# Altium integrated library TI_Logic_Specialty_Logic.IntLib: 2504 symbols (part 20 of 81)
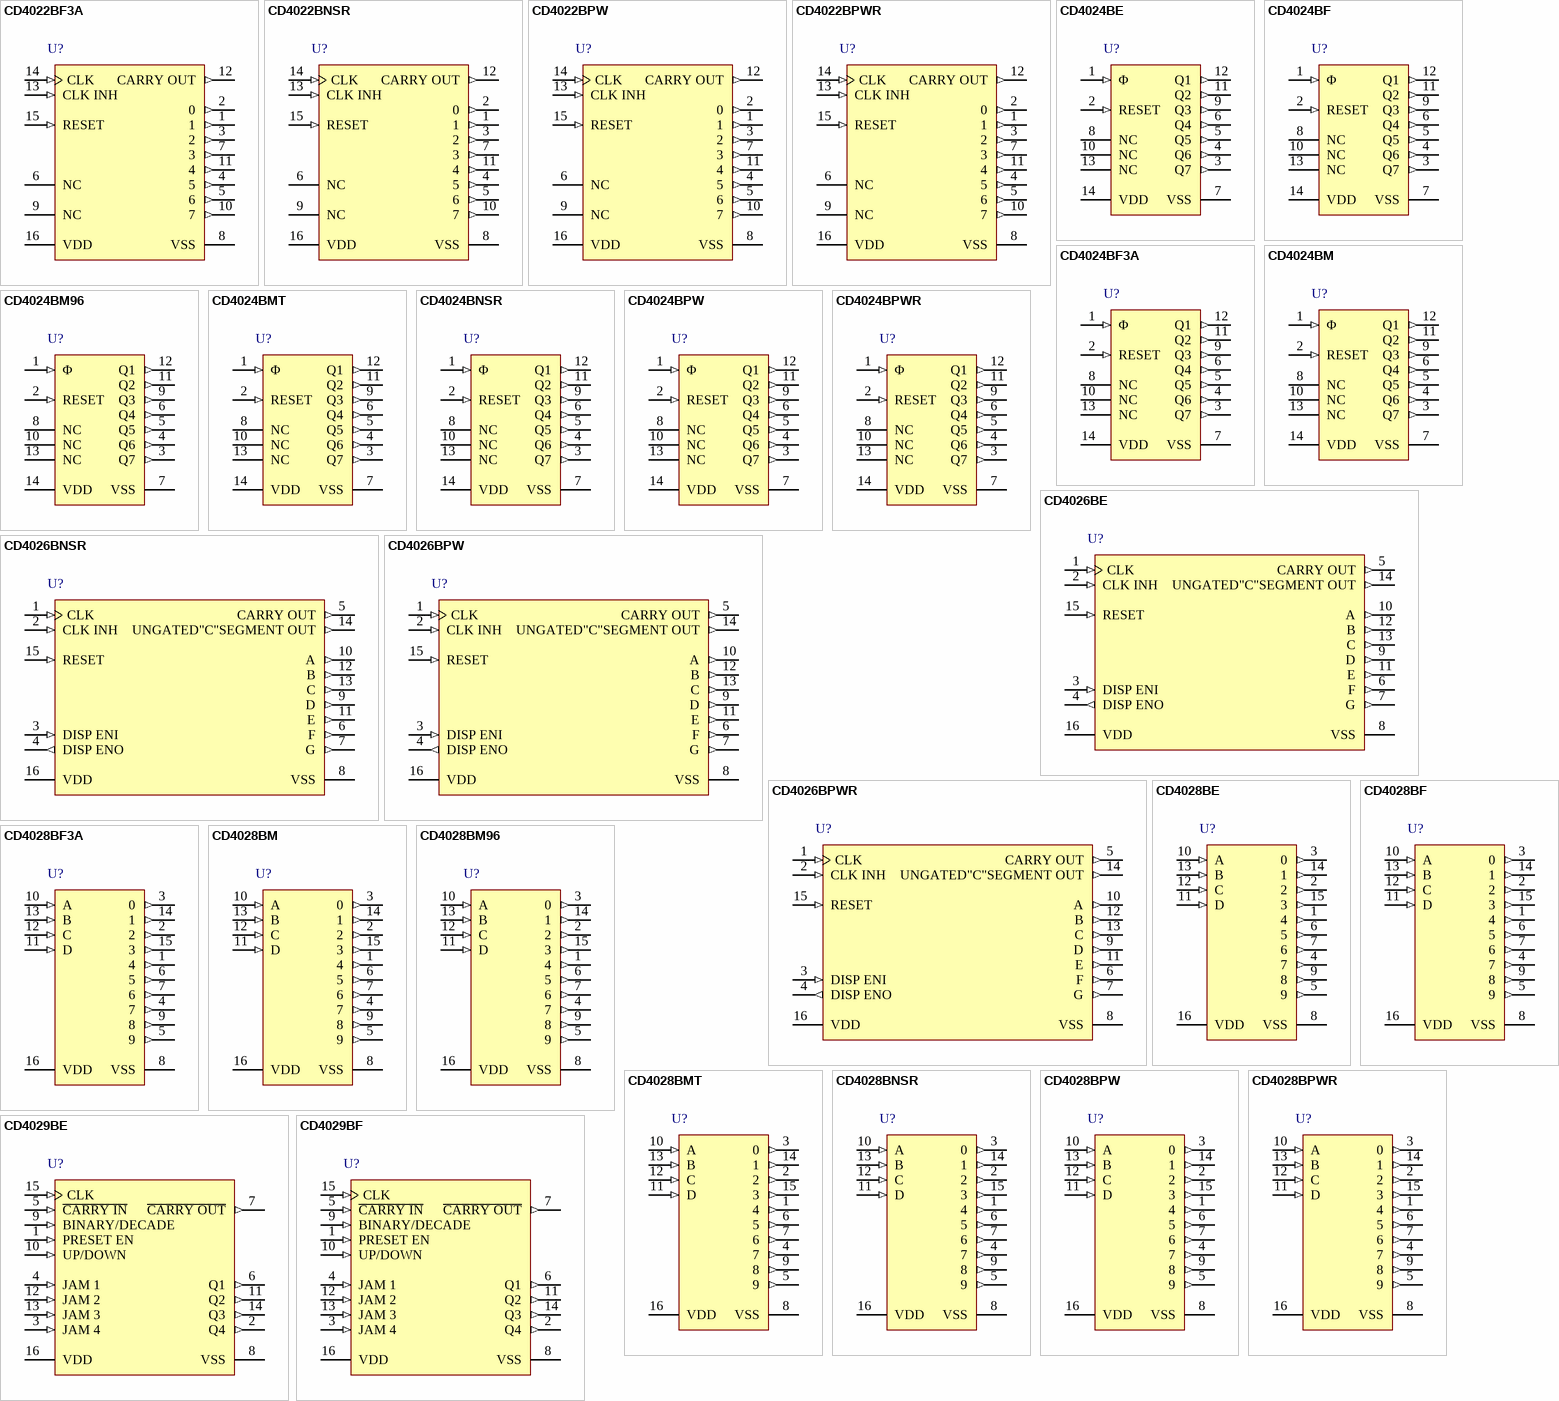
[diagram p123: symbols CD4022BF3A to CD4029BF]

## CD4028BNSR
designator U?
CMOS BCD-to-Decimal or Binary-to-Octal Decoders/Drivers, NS0016A, LARGE T&R; Generic Part Number: CD4028B; Manufacturer: Texas Instruments; PartNumber: CD4028BNSR; VCC(Max)(V): 18; VCC(Min)(V): 3; Function: Decoder/Demultiplexer; ICC @ Nom Voltage(Max)(mA): 0.3; Bits(#): 10; F @ Nom Voltage(Max)(Mhz): 8; Configuration: 4：10; Channels(#): 1; Rating: Catalog; Technology Family: CD4000; Voltage(Nom)(V): 5,10,15; Schmitt Trigger: No; Output Drive (IOL/IOH)(Max)(mA): 1.5/-1.5; tpd @ Nom Voltage(Max)(ns): 160; DatasheetVersion: SCHS033C; PackageReference: NS0016A; Supplier 1: Mouser; Supplier Part Number 1: 595-CD4028BNSR; Supplier 2: Digi-Key; Supplier Part Number 2: 296-12724-2-ND; Supplier 3: Digi-Key; Supplier Part Number 3: 296-12724-1-ND; Supplier 4: Digi-Key; Supplier Part Number 4: 296-12724-6-ND; Output Type: CMOS; Input Type: CMOS; Operating Temperature Range(C): -55 to 125; Type: Standard; ComponentLink1Description: Manufacturer URL; ComponentLink1URL: http://www.ti.com/; ComponentLink2Description: Datasheet; ComponentLink2URL: http://www.ti.com/lit/ds/symlink/cd4028b.pdf; ComponentLink3Description: Package Specification; ComponentLink3URL: http://www.ti.com/lit/ml/msop002a/msop002a.pdf
footprint NS0016A_N (SOIC,16-Leads,Body 10.5x5.6mm,Pitch 1.27mm,IPC Medium Density)
footprint NS0016A_M (SOIC,16-Leads,Body 10.5x5.6mm,Pitch 1.27mm,IPC Low Density)
footprint NS0016A_L (SOIC,16-Leads,Body 10.5x5.6mm,Pitch 1.27mm,IPC High Density)
pins: 1 4 (out), 2 (out), 3 0 (out), 4 7 (out), 5 9 (out), 6 5 (out), 7 6 (out), 8 VSS (power), 9 8 (out), 10 A (in), 11 D (in), 12 C (in), 13 B (in), 14 1 (out), 15 3 (out), 16 VDD (power)

## CD4028BPW
designator U?
CMOS BCD-to-Decimal or Binary-to-Octal Decoders/Drivers, PW0016A, TUBE; Generic Part Number: CD4028B; Manufacturer: Texas Instruments; PartNumber: CD4028BPW; VCC(Max)(V): 18; VCC(Min)(V): 3; Function: Decoder/Demultiplexer; ICC @ Nom Voltage(Max)(mA): 0.3; Bits(#): 10; F @ Nom Voltage(Max)(Mhz): 8; Configuration: 4：10; Channels(#): 1; Rating: Catalog; Technology Family: CD4000; Voltage(Nom)(V): 5,10,15; Schmitt Trigger: No; Output Drive (IOL/IOH)(Max)(mA): 1.5/-1.5; tpd @ Nom Voltage(Max)(ns): 160; DatasheetVersion: SCHS033C; PackageReference: PW0016A; Supplier 1: Mouser; Supplier Part Number 1: 595-CD4028BPW; Supplier 2: Digi-Key; Supplier Part Number 2: 296-32880-5-ND; Output Type: CMOS; Input Type: CMOS; Operating Temperature Range(C): -55 to 125; Type: Standard; Code_JEDEC: MO-153; ComponentLink1Description: Manufacturer URL; ComponentLink1URL: http://www.ti.com/; ComponentLink2Description: Datasheet; ComponentLink2URL: http://www.ti.com/lit/ds/symlink/cd4028b.pdf; ComponentLink3Description: Package Specification; ComponentLink3URL: http://www.ti.com/lit/ml/mpds361/mpds361.pdf
footprint PW0016A_N (SOP, 16-Leads, Body 5.1x4.5mm, Pitch 0.65mm, IPC Medium Density)
footprint PW0016A_M (SOP, 16-Leads, Body 5.1x4.5mm, Pitch 0.65mm, IPC Low Density)
footprint PW0016A_L (SOP, 16-Leads, Body 5.1x4.5mm, Pitch 0.65mm, IPC High Density)
pins: 1 4 (out), 2 (out), 3 0 (out), 4 7 (out), 5 9 (out), 6 5 (out), 7 6 (out), 8 VSS (power), 9 8 (out), 10 A (in), 11 D (in), 12 C (in), 13 B (in), 14 1 (out), 15 3 (out), 16 VDD (power)

## CD4028BPWR
designator U?
CMOS BCD-to-Decimal or Binary-to-Octal Decoders/Drivers, PW0016A, LARGE T&R; Generic Part Number: CD4028B; Manufacturer: Texas Instruments; PartNumber: CD4028BPWR; VCC(Max)(V): 18; VCC(Min)(V): 3; Function: Decoder/Demultiplexer; ICC @ Nom Voltage(Max)(mA): 0.3; Bits(#): 10; F @ Nom Voltage(Max)(Mhz): 8; Configuration: 4：10; Channels(#): 1; Rating: Catalog; Technology Family: CD4000; Voltage(Nom)(V): 5,10,15; Schmitt Trigger: No; Output Drive (IOL/IOH)(Max)(mA): 1.5/-1.5; tpd @ Nom Voltage(Max)(ns): 160; DatasheetVersion: SCHS033C; PackageReference: PW0016A; Supplier 1: Mouser; Supplier Part Number 1: 595-CD4028BPWR; Supplier 2: Digi-Key; Supplier Part Number 2: 296-31494-2-ND; Supplier 3: Digi-Key; Supplier Part Number 3: 296-31494-1-ND; Supplier 4: Digi-Key; Supplier Part Number 4: 296-31494-6-ND; Output Type: CMOS; Input Type: CMOS; Operating Temperature Range(C): -55 to 125; Type: Standard; Code_JEDEC: MO-153; ComponentLink1Description: Manufacturer URL; ComponentLink1URL: http://www.ti.com/; ComponentLink2Description: Datasheet; ComponentLink2URL: http://www.ti.com/lit/ds/symlink/cd4028b.pdf; ComponentLink3Description: Package Specification; ComponentLink3URL: http://www.ti.com/lit/ml/mpds361/mpds361.pdf
footprint PW0016A_N (SOP, 16-Leads, Body 5.1x4.5mm, Pitch 0.65mm, IPC Medium Density)
footprint PW0016A_M (SOP, 16-Leads, Body 5.1x4.5mm, Pitch 0.65mm, IPC Low Density)
footprint PW0016A_L (SOP, 16-Leads, Body 5.1x4.5mm, Pitch 0.65mm, IPC High Density)
pins: 1 4 (out), 2 (out), 3 0 (out), 4 7 (out), 5 9 (out), 6 5 (out), 7 6 (out), 8 VSS (power), 9 8 (out), 10 A (in), 11 D (in), 12 C (in), 13 B (in), 14 1 (out), 15 3 (out), 16 VDD (power)

## CD4029BE
designator U?
CMOS Presettable Up/Down Counter, N0016A, TUBE; Generic Part Number: CD4029B; Manufacturer: Texas Instruments; PartNumber: CD4029BE; VCC(Max)(V): 18; VCC(Min)(V): 3; Inputs: 1; ICC @ Nom Voltage(Max)(mA): 0.03; Bits(#): 4; F @ Nom Voltage(Max)(Mhz): 8; Rating: Catalog; Technology Family: CD4000; Voltage(Nom)(V): 5,10,15; Schmitt Trigger: No; Output Drive (IOL/IOH)(Max)(mA): 1.5/-1.5; tpd @ Nom Voltage(Max)(ns): 260; DatasheetVersion: SCHS034C; PackageReference: N0016A; Supplier 1: Mouser; Supplier Part Number 1: 595-CD4029BE; Supplier 2: Digi-Key; Supplier Part Number 2: 296-2046-5-ND; Output Type: CMOS; Function: Counter; Input Type: CMOS; Operating Temperature Range(C): -55 to 125; Type: Binary,Decade; Code_JEDEC: MS-001; ComponentLink1Description: Manufacturer URL; ComponentLink1URL: http://www.ti.com/; ComponentLink2Description: Datasheet; ComponentLink2URL: http://www.ti.com/lit/ds/symlink/cd4029b.pdf; ComponentLink3Description: Package Specification; ComponentLink3URL: http://www.ti.com/lit/ml/mpdi002c/mpdi002c.pdf
footprint N0016A (DIP, 16-Leads, Body 19.7x6.6mm, Pitch 2.54mm)
pins: 1 PRESET EN (in), 2 Q4 (out), 3 JAM 4 (in), 4 JAM 1 (in), 5 ~{CARRY IN} (in), 6 Q1 (out), 7 ~{CARRY OUT} (out), 8 VSS (power), 9 BINARY/DECADE (in), 10 UP/DOWN (in), 11 Q2 (out), 12 JAM 2 (in), 13 JAM 3 (in), 14 Q3 (out), 15 CLK (in), 16 VDD (power)

## CD4029BF
designator U?
CMOS Presettable Up/Down Counter, J0016A, TUBE; Generic Part Number: CD4029B-MIL; Manufacturer: Texas Instruments; PartNumber: CD4029BF; VCC(Max)(V): 18; VCC(Min)(V): 3; Inputs: 1; ICC @ Nom Voltage(Max)(mA): 0.03; Bits(#): 4; F @ Nom Voltage(Max)(Mhz): 8; Rating: Military; Technology Family: CD4000; Voltage(Nom)(V): 10; Schmitt Trigger: No; Output Drive (IOL/IOH)(Max)(mA): 1.5/-1.5; tpd @ Nom Voltage(Max)(ns): 260; DatasheetVersion: SCHS034C; PackageReference: J0016A; Output Type: CMOS; Function: Counter; Input Type: CMOS; Operating Temperature Range(C): -55 to 125; Type: Binary,Decade; ComponentLink1Description: Manufacturer URL; ComponentLink1URL: http://www.ti.com/; ComponentLink2Description: Datasheet; ComponentLink2URL: http://www.ti.com/lit/ds/symlink/cd4029b-mil.pdf; ComponentLink3Description: Package Specification; ComponentLink3URL: http://www.ti.com/lit/ml/mcer002d/mcer002d.pdf
footprint J0016A (DIP, 16-Leads, Body 21.35x7.2mm, Pitch 2.54mm)
pins: 1 PRESET EN (in), 2 Q4 (out), 3 JAM 4 (in), 4 JAM 1 (in), 5 ~{CARRY IN} (in), 6 Q1 (out), 7 ~{CARRY OUT} (out), 8 VSS (power), 9 BINARY/DECADE (in), 10 UP/DOWN (in), 11 Q2 (out), 12 JAM 2 (in), 13 JAM 3 (in), 14 Q3 (out), 15 CLK (in), 16 VDD (power)

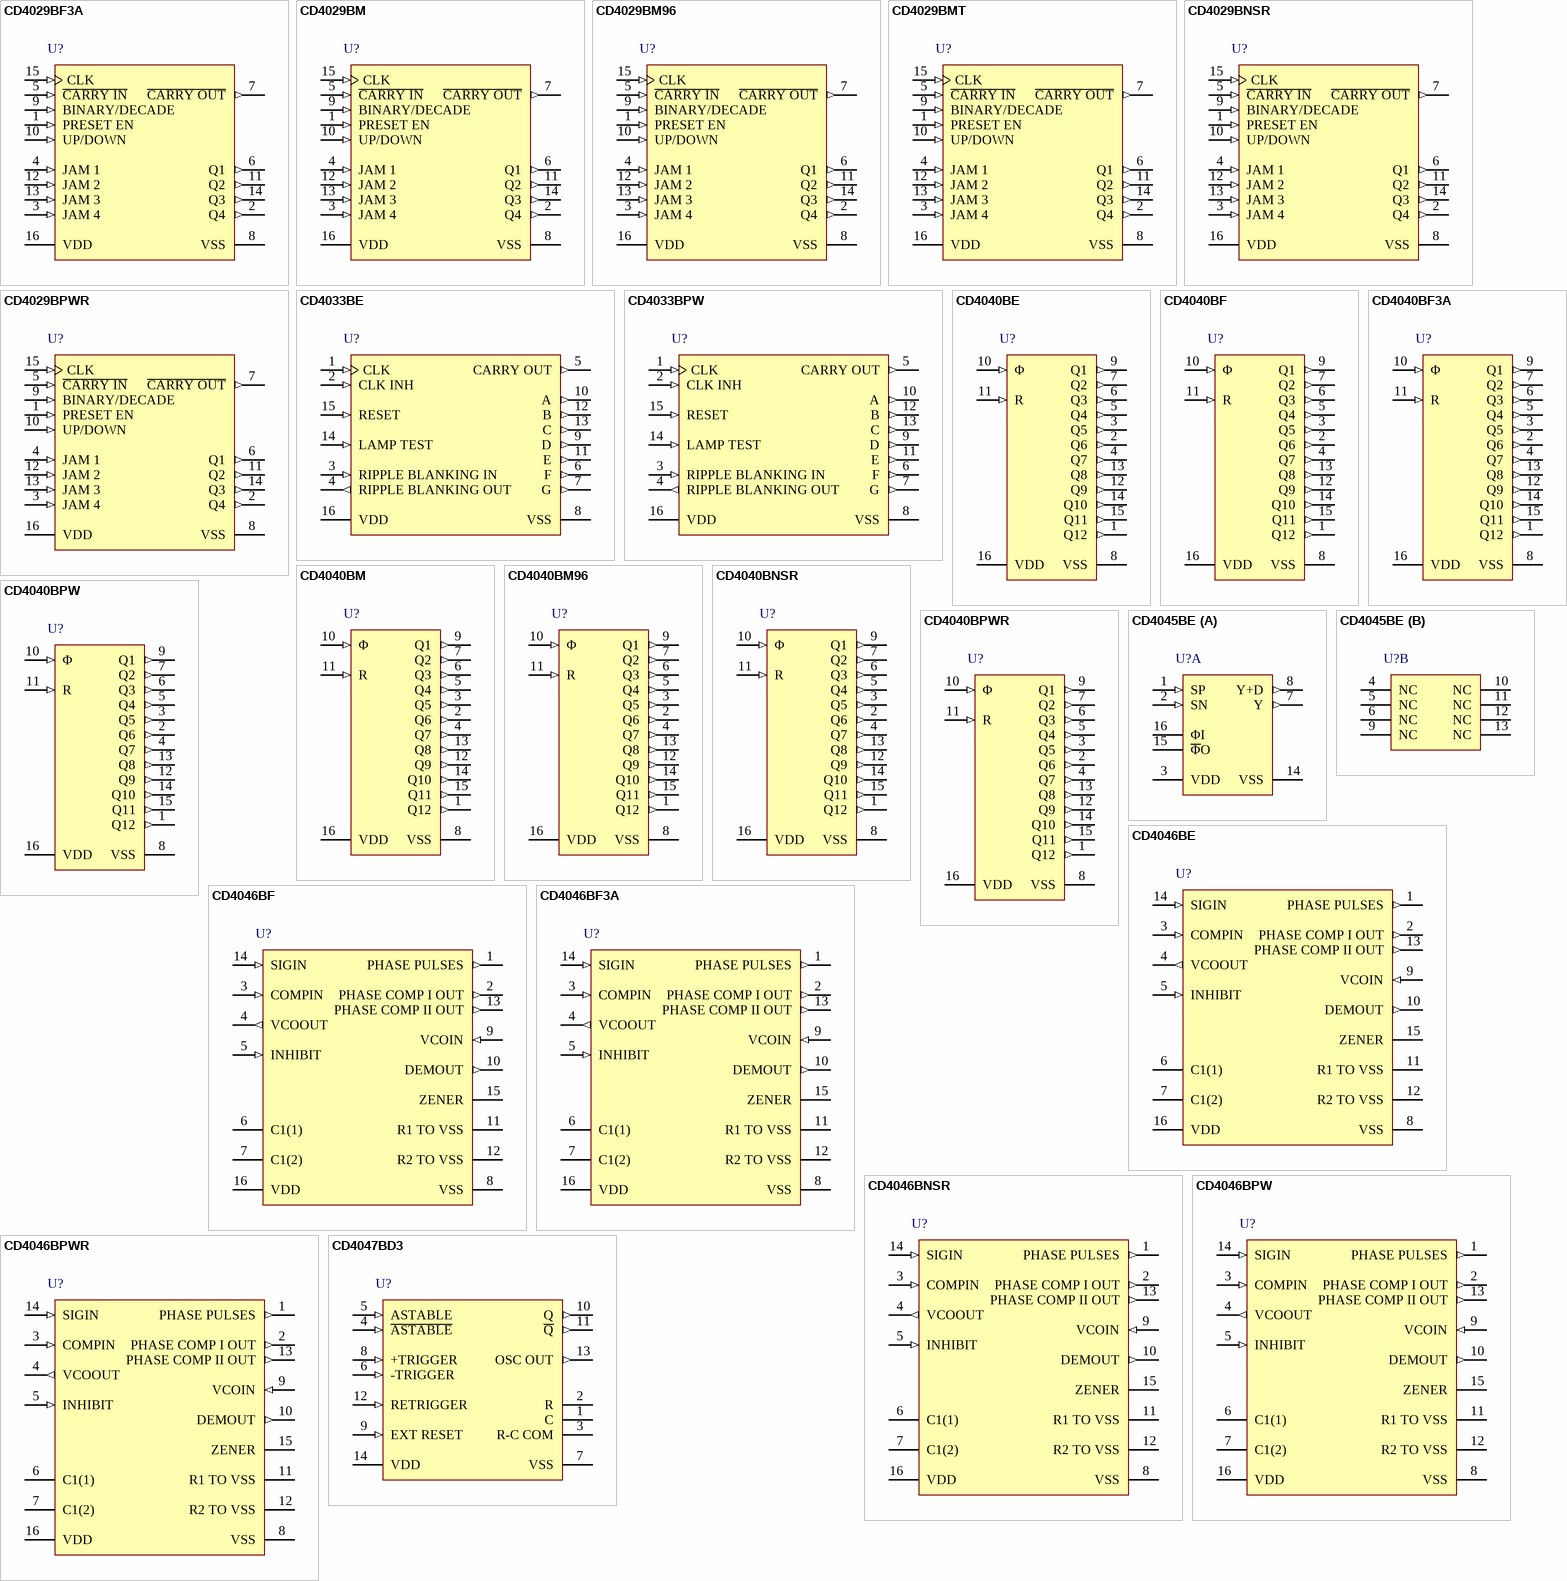
[diagram p25: symbols CD4029BF3A to CD4047BD3]

## CD4029BF3A
designator U?
CMOS Presettable Up/Down Counter, J0016A, TUBE; Generic Part Number: CD4029B-MIL; Manufacturer: Texas Instruments; PartNumber: CD4029BF3A; VCC(Max)(V): 18; VCC(Min)(V): 3; Inputs: 1; ICC @ Nom Voltage(Max)(mA): 0.03; Bits(#): 4; F @ Nom Voltage(Max)(Mhz): 8; Rating: Military; Technology Family: CD4000; Voltage(Nom)(V): 10; Schmitt Trigger: No; Output Drive (IOL/IOH)(Max)(mA): 1.5/-1.5; tpd @ Nom Voltage(Max)(ns): 260; DatasheetVersion: SCHS034C; PackageReference: J0016A; Output Type: CMOS; Function: Counter; Input Type: CMOS; Operating Temperature Range(C): -55 to 125; Type: Binary,Decade; ComponentLink1Description: Manufacturer URL; ComponentLink1URL: http://www.ti.com/; ComponentLink2Description: Datasheet; ComponentLink2URL: http://www.ti.com/lit/ds/symlink/cd4029b-mil.pdf; ComponentLink3Description: Package Specification; ComponentLink3URL: http://www.ti.com/lit/ml/mcer002d/mcer002d.pdf
footprint J0016A (DIP, 16-Leads, Body 21.35x7.2mm, Pitch 2.54mm)
pins: 1 PRESET EN (in), 2 Q4 (out), 3 JAM 4 (in), 4 JAM 1 (in), 5 ~{CARRY IN} (in), 6 Q1 (out), 7 ~{CARRY OUT} (out), 8 VSS (power), 9 BINARY/DECADE (in), 10 UP/DOWN (in), 11 Q2 (out), 12 JAM 2 (in), 13 JAM 3 (in), 14 Q3 (out), 15 CLK (in), 16 VDD (power)

## CD4029BM
designator U?
CMOS Presettable Up/Down Counter, D0016A, TUBE; Generic Part Number: CD4029B; Manufacturer: Texas Instruments; PartNumber: CD4029BM; VCC(Max)(V): 18; VCC(Min)(V): 3; Inputs: 1; ICC @ Nom Voltage(Max)(mA): 0.03; Bits(#): 4; F @ Nom Voltage(Max)(Mhz): 8; Rating: Catalog; Technology Family: CD4000; Voltage(Nom)(V): 5,10,15; Schmitt Trigger: No; Output Drive (IOL/IOH)(Max)(mA): 1.5/-1.5; tpd @ Nom Voltage(Max)(ns): 260; DatasheetVersion: SCHS034C; PackageReference: D0016A; Supplier 1: Mouser; Supplier Part Number 1: 595-CD4029BM; Supplier 2: Digi-Key; Supplier Part Number 2: 296-25943-5-ND; Output Type: CMOS; Function: Counter; Input Type: CMOS; Operating Temperature Range(C): -55 to 125; Type: Binary,Decade; Code_JEDEC: MS-012 variation AC; ComponentLink1Description: Manufacturer URL; ComponentLink1URL: http://www.ti.com/; ComponentLink2Description: Datasheet; ComponentLink2URL: http://www.ti.com/lit/ds/symlink/cd4029b.pdf; ComponentLink3Description: Package Specification; ComponentLink3URL: http://www.ti.com/lit/ml/mpds178g/mpds178g.pdf
footprint D0016A_N (SOIC, 16-Leads, Body 10x4mm, Pitch 1.27mm, IPC Medium Density)
footprint D0016A_M (SOIC, 16-Leads, Body 10x4mm, Pitch 1.27mm, IPC Low Density)
footprint D0016A_L (SOIC, 16-Leads, Body 10x4mm, Pitch 1.27mm, IPC High Density)
pins: 1 PRESET EN (in), 2 Q4 (out), 3 JAM 4 (in), 4 JAM 1 (in), 5 ~{CARRY IN} (in), 6 Q1 (out), 7 ~{CARRY OUT} (out), 8 VSS (power), 9 BINARY/DECADE (in), 10 UP/DOWN (in), 11 Q2 (out), 12 JAM 2 (in), 13 JAM 3 (in), 14 Q3 (out), 15 CLK (in), 16 VDD (power)

## CD4029BM96
designator U?
CMOS Presettable Up/Down Counter, D0016A, LARGE T&R; Generic Part Number: CD4029B; Manufacturer: Texas Instruments; PartNumber: CD4029BM96; VCC(Max)(V): 18; VCC(Min)(V): 3; Inputs: 1; ICC @ Nom Voltage(Max)(mA): 0.03; Bits(#): 4; F @ Nom Voltage(Max)(Mhz): 8; Rating: Catalog; Technology Family: CD4000; Voltage(Nom)(V): 5,10,15; Schmitt Trigger: No; Output Drive (IOL/IOH)(Max)(mA): 1.5/-1.5; tpd @ Nom Voltage(Max)(ns): 260; DatasheetVersion: SCHS034C; PackageReference: D0016A; Supplier 1: Mouser; Supplier Part Number 1: 595-CD4029BM96; Supplier 2: Digi-Key; Supplier Part Number 2: 296-38054-2-ND; Supplier 3: Digi-Key; Supplier Part Number 3: 296-38054-1-ND; Supplier 4: Digi-Key; Supplier Part Number 4: 296-38054-6-ND; Output Type: CMOS; Function: Counter; Input Type: CMOS; Operating Temperature Range(C): -55 to 125; Type: Binary,Decade; Code_JEDEC: MS-012 variation AC; ComponentLink1Description: Manufacturer URL; ComponentLink1URL: http://www.ti.com/; ComponentLink2Description: Datasheet; ComponentLink2URL: http://www.ti.com/lit/ds/symlink/cd4029b.pdf; ComponentLink3Description: Package Specification; ComponentLink3URL: http://www.ti.com/lit/ml/mpds178g/mpds178g.pdf
footprint D0016A_N (SOIC, 16-Leads, Body 10x4mm, Pitch 1.27mm, IPC Medium Density)
footprint D0016A_M (SOIC, 16-Leads, Body 10x4mm, Pitch 1.27mm, IPC Low Density)
footprint D0016A_L (SOIC, 16-Leads, Body 10x4mm, Pitch 1.27mm, IPC High Density)
pins: 1 PRESET EN (in), 2 Q4 (out), 3 JAM 4 (in), 4 JAM 1 (in), 5 ~{CARRY IN} (in), 6 Q1 (out), 7 ~{CARRY OUT} (out), 8 VSS (power), 9 BINARY/DECADE (in), 10 UP/DOWN (in), 11 Q2 (out), 12 JAM 2 (in), 13 JAM 3 (in), 14 Q3 (out), 15 CLK (in), 16 VDD (power)

## CD4029BMT
designator U?
CMOS Presettable Up/Down Counter, D0016A, SMALL T&R; Generic Part Number: CD4029B; Manufacturer: Texas Instruments; PartNumber: CD4029BMT; VCC(Max)(V): 18; VCC(Min)(V): 3; Inputs: 1; ICC @ Nom Voltage(Max)(mA): 0.03; Bits(#): 4; F @ Nom Voltage(Max)(Mhz): 8; Rating: Catalog; Technology Family: CD4000; Voltage(Nom)(V): 5,10,15; Schmitt Trigger: No; Output Drive (IOL/IOH)(Max)(mA): 1.5/-1.5; tpd @ Nom Voltage(Max)(ns): 260; DatasheetVersion: SCHS034C; PackageReference: D0016A; Supplier 1: Mouser; Supplier Part Number 1: 595-CD4029BMT; Supplier 2: Digi-Key; Supplier Part Number 2: CD4029BMT-ND; Output Type: CMOS; Function: Counter; Input Type: CMOS; Operating Temperature Range(C): -55 to 125; Type: Binary,Decade; Code_JEDEC: MS-012 variation AC; ComponentLink1Description: Manufacturer URL; ComponentLink1URL: http://www.ti.com/; ComponentLink2Description: Datasheet; ComponentLink2URL: http://www.ti.com/lit/ds/symlink/cd4029b.pdf; ComponentLink3Description: Package Specification; ComponentLink3URL: http://www.ti.com/lit/ml/mpds178g/mpds178g.pdf
footprint D0016A_N (SOIC, 16-Leads, Body 10x4mm, Pitch 1.27mm, IPC Medium Density)
footprint D0016A_M (SOIC, 16-Leads, Body 10x4mm, Pitch 1.27mm, IPC Low Density)
footprint D0016A_L (SOIC, 16-Leads, Body 10x4mm, Pitch 1.27mm, IPC High Density)
pins: 1 PRESET EN (in), 2 Q4 (out), 3 JAM 4 (in), 4 JAM 1 (in), 5 ~{CARRY IN} (in), 6 Q1 (out), 7 ~{CARRY OUT} (out), 8 VSS (power), 9 BINARY/DECADE (in), 10 UP/DOWN (in), 11 Q2 (out), 12 JAM 2 (in), 13 JAM 3 (in), 14 Q3 (out), 15 CLK (in), 16 VDD (power)

## CD4029BNSR
designator U?
CMOS Presettable Up/Down Counter, NS0016A, LARGE T&R; Generic Part Number: CD4029B; Manufacturer: Texas Instruments; PartNumber: CD4029BNSR; VCC(Max)(V): 18; VCC(Min)(V): 3; Inputs: 1; ICC @ Nom Voltage(Max)(mA): 0.03; Bits(#): 4; F @ Nom Voltage(Max)(Mhz): 8; Rating: Catalog; Technology Family: CD4000; Voltage(Nom)(V): 5,10,15; Schmitt Trigger: No; Output Drive (IOL/IOH)(Max)(mA): 1.5/-1.5; tpd @ Nom Voltage(Max)(ns): 260; DatasheetVersion: SCHS034C; PackageReference: NS0016A; Supplier 1: Mouser; Supplier Part Number 1: 595-CD4029BNSR; Supplier 2: Digi-Key; Supplier Part Number 2: 296-38055-2-ND; Supplier 3: Digi-Key; Supplier Part Number 3: 296-38055-1-ND; Supplier 4: Digi-Key; Supplier Part Number 4: 296-38055-6-ND; Output Type: CMOS; Function: Counter; Input Type: CMOS; Operating Temperature Range(C): -55 to 125; Type: Binary,Decade; ComponentLink1Description: Manufacturer URL; ComponentLink1URL: http://www.ti.com/; ComponentLink2Description: Datasheet; ComponentLink2URL: http://www.ti.com/lit/ds/symlink/cd4029b.pdf; ComponentLink3Description: Package Specification; ComponentLink3URL: http://www.ti.com/lit/ml/msop002a/msop002a.pdf
footprint NS0016A_N (SOIC,16-Leads,Body 10.5x5.6mm,Pitch 1.27mm,IPC Medium Density)
footprint NS0016A_M (SOIC,16-Leads,Body 10.5x5.6mm,Pitch 1.27mm,IPC Low Density)
footprint NS0016A_L (SOIC,16-Leads,Body 10.5x5.6mm,Pitch 1.27mm,IPC High Density)
pins: 1 PRESET EN (in), 2 Q4 (out), 3 JAM 4 (in), 4 JAM 1 (in), 5 ~{CARRY IN} (in), 6 Q1 (out), 7 ~{CARRY OUT} (out), 8 VSS (power), 9 BINARY/DECADE (in), 10 UP/DOWN (in), 11 Q2 (out), 12 JAM 2 (in), 13 JAM 3 (in), 14 Q3 (out), 15 CLK (in), 16 VDD (power)

## CD4029BPWR
designator U?
CMOS Presettable Up/Down Counter, PW0016A, LARGE T&R; Generic Part Number: CD4029B; Manufacturer: Texas Instruments; PartNumber: CD4029BPWR; VCC(Max)(V): 18; VCC(Min)(V): 3; Inputs: 1; ICC @ Nom Voltage(Max)(mA): 0.03; Bits(#): 4; F @ Nom Voltage(Max)(Mhz): 8; Rating: Catalog; Technology Family: CD4000; Voltage(Nom)(V): 5,10,15; Schmitt Trigger: No; Output Drive (IOL/IOH)(Max)(mA): 1.5/-1.5; tpd @ Nom Voltage(Max)(ns): 260; DatasheetVersion: SCHS034C; PackageReference: PW0016A; Supplier 1: Mouser; Supplier Part Number 1: 595-CD4029BPWR; Supplier 2: Digi-Key; Supplier Part Number 2: 296-17105-2-ND; Supplier 3: Digi-Key; Supplier Part Number 3: 296-17105-1-ND; Supplier 4: Digi-Key; Supplier Part Number 4: 296-17105-6-ND; Output Type: CMOS; Function: Counter; Input Type: CMOS; Operating Temperature Range(C): -55 to 125; Type: Binary,Decade; Code_JEDEC: MO-153; ComponentLink1Description: Manufacturer URL; ComponentLink1URL: http://www.ti.com/; ComponentLink2Description: Datasheet; ComponentLink2URL: http://www.ti.com/lit/ds/symlink/cd4029b.pdf; ComponentLink3Description: Package Specification; ComponentLink3URL: http://www.ti.com/lit/ml/mpds361/mpds361.pdf
footprint PW0016A_N (SOP, 16-Leads, Body 5.1x4.5mm, Pitch 0.65mm, IPC Medium Density)
footprint PW0016A_M (SOP, 16-Leads, Body 5.1x4.5mm, Pitch 0.65mm, IPC Low Density)
footprint PW0016A_L (SOP, 16-Leads, Body 5.1x4.5mm, Pitch 0.65mm, IPC High Density)
pins: 1 PRESET EN (in), 2 Q4 (out), 3 JAM 4 (in), 4 JAM 1 (in), 5 ~{CARRY IN} (in), 6 Q1 (out), 7 ~{CARRY OUT} (out), 8 VSS (power), 9 BINARY/DECADE (in), 10 UP/DOWN (in), 11 Q2 (out), 12 JAM 2 (in), 13 JAM 3 (in), 14 Q3 (out), 15 CLK (in), 16 VDD (power)

## CD4033BE
designator U?
CMOS Decade Counter/Divider with Decoded 7-Segment Display Outputs and Ripple Blanking, N0016A, TUBE; Generic Part Number: CD4033B; Manufacturer: Texas Instruments; PartNumber: CD4033BE; VCC(Max)(V): 18; VCC(Min)(V): 3; Inputs: 1; ICC @ Nom Voltage(Max)(mA): 0.03; Bits(#): 7; F @ Nom Voltage(Max)(Mhz): 8; Rating: Catalog; Technology Family: CD4000; Voltage(Nom)(V): 5,10,15; Schmitt Trigger: No; Output Drive (IOL/IOH)(Max)(mA): 1.5/-1.5; tpd @ Nom Voltage(Max)(ns): 250; DatasheetVersion: SCHS031B; PackageReference: N0016A; Supplier 1: Mouser; Supplier Part Number 1: 595-CD4033BE; Supplier 2: Digi-Key; Supplier Part Number 2: 296-14264-5-ND; Output Type: CMOS; Function: Counter; Input Type: CMOS; Operating Temperature Range(C): -55 to 125; Type: Decade; Code_JEDEC: MS-001; ComponentLink1Description: Manufacturer URL; ComponentLink1URL: http://www.ti.com/; ComponentLink2Description: Datasheet; ComponentLink2URL: http://www.ti.com/lit/ds/symlink/cd4033b.pdf; ComponentLink3Description: Package Specification; ComponentLink3URL: http://www.ti.com/lit/ml/mpdi002c/mpdi002c.pdf
footprint N0016A (DIP, 16-Leads, Body 19.7x6.6mm, Pitch 2.54mm)
pins: 1 CLK (in), 2 CLK INH (in), 3 RIPPLE BLANKING IN (in), 4 RIPPLE BLANKING OUT (out), 5 CARRY OUT (out), 6 F (out), 7 G (out), 8 VSS (power), 9 D (out), 10 A (out), 11 E (out), 12 B (out), 13 C (out), 14 LAMP TEST (in), 15 RESET (in), 16 VDD (power)

## CD4033BPW
designator U?
CMOS Decade Counter/Divider with Decoded 7-Segment Display Outputs and Ripple Blanking, PW0016A, TUBE; Generic Part Number: CD4033B; Manufacturer: Texas Instruments; PartNumber: CD4033BPW; VCC(Max)(V): 18; VCC(Min)(V): 3; Inputs: 1; ICC @ Nom Voltage(Max)(mA): 0.03; Bits(#): 7; F @ Nom Voltage(Max)(Mhz): 8; Rating: Catalog; Technology Family: CD4000; Voltage(Nom)(V): 5,10,15; Schmitt Trigger: No; Output Drive (IOL/IOH)(Max)(mA): 1.5/-1.5; tpd @ Nom Voltage(Max)(ns): 250; DatasheetVersion: SCHS031B; PackageReference: PW0016A; Supplier 1: Mouser; Supplier Part Number 1: 595-CD4033BPW; Supplier 2: Digi-Key; Supplier Part Number 2: CD4033BPW-ND; Output Type: CMOS; Function: Counter; Input Type: CMOS; Operating Temperature Range(C): -55 to 125; Type: Decade; Code_JEDEC: MO-153; ComponentLink1Description: Manufacturer URL; ComponentLink1URL: http://www.ti.com/; ComponentLink2Description: Datasheet; ComponentLink2URL: http://www.ti.com/lit/ds/symlink/cd4033b.pdf; ComponentLink3Description: Package Specification; ComponentLink3URL: http://www.ti.com/lit/ml/mpds361/mpds361.pdf
footprint PW0016A_N (SOP, 16-Leads, Body 5.1x4.5mm, Pitch 0.65mm, IPC Medium Density)
footprint PW0016A_M (SOP, 16-Leads, Body 5.1x4.5mm, Pitch 0.65mm, IPC Low Density)
footprint PW0016A_L (SOP, 16-Leads, Body 5.1x4.5mm, Pitch 0.65mm, IPC High Density)
pins: 1 CLK (in), 2 CLK INH (in), 3 RIPPLE BLANKING IN (in), 4 RIPPLE BLANKING OUT (out), 5 CARRY OUT (out), 6 F (out), 7 G (out), 8 VSS (power), 9 D (out), 10 A (out), 11 E (out), 12 B (out), 13 C (out), 14 LAMP TEST (in), 15 RESET (in), 16 VDD (power)

## CD4040BE
designator U?
CMOS 12-Stage Ripple-Carry Binary Counter/Divider, N0016A, TUBE; Generic Part Number: CD4040B; Manufacturer: Texas Instruments; PartNumber: CD4040BE; VCC(Max)(V): 18; VCC(Min)(V): 3; Inputs: 1; ICC @ Nom Voltage(Max)(mA): 0.03; Bits(#): 12; F @ Nom Voltage(Max)(Mhz): 8; Rating: Catalog; Technology Family: CD4000; Voltage(Nom)(V): 5,10,15; Schmitt Trigger: No; Output Drive (IOL/IOH)(Max)(mA): 1.5/-1.5; tpd @ Nom Voltage(Max)(ns): 160; DatasheetVersion: SCHS030D; PackageReference: N0016A; Supplier 1: Mouser; Supplier Part Number 1: 595-CD4040BE; Supplier 2: Digi-Key; Supplier Part Number 2: 296-2048-5-ND; Output Type: CMOS; Function: Counter; Input Type: CMOS; Operating Temperature Range(C): -55 to 125; Type: Binary; Code_JEDEC: MS-001; ComponentLink1Description: Manufacturer URL; ComponentLink1URL: http://www.ti.com/; ComponentLink2Description: Datasheet; ComponentLink2URL: http://www.ti.com/lit/ds/symlink/cd4040b.pdf; ComponentLink3Description: Package Specification; ComponentLink3URL: http://www.ti.com/lit/ml/mpdi002c/mpdi002c.pdf
footprint N0016A (DIP, 16-Leads, Body 19.7x6.6mm, Pitch 2.54mm)
pins: 1 Q12 (out), 2 Q6 (out), 3 Q5 (out), 4 Q7 (out), 5 Q4 (out), 6 Q3 (out), 7 Q2 (out), 8 VSS (power), 9 Q1 (out), 10 Φ (in), 11 R (in), 12 Q9 (out), 13 Q8 (out), 14 Q10 (out), 15 Q11 (out), 16 VDD (power)

## CD4040BF
designator U?
CMOS 12-Stage Ripple-Carry Binary Counter/Divider, J0016A, TUBE; Generic Part Number: CD4040B-MIL; Manufacturer: Texas Instruments; PartNumber: CD4040BF; VCC(Max)(V): 18; VCC(Min)(V): 3; Inputs: 1; ICC @ Nom Voltage(Max)(mA): 0.03; Bits(#): 12; F @ Nom Voltage(Max)(Mhz): 8; Rating: Military; Technology Family: CD4000; Voltage(Nom)(V): 10; Schmitt Trigger: No; Output Drive (IOL/IOH)(Max)(mA): 1.5/-1.5; tpd @ Nom Voltage(Max)(ns): 160; DatasheetVersion: SCHS030D; PackageReference: J0016A; Output Type: CMOS; Function: Counter; Input Type: CMOS; Operating Temperature Range(C): -55 to 125; Type: Binary; ComponentLink1Description: Manufacturer URL; ComponentLink1URL: http://www.ti.com/; ComponentLink2Description: Datasheet; ComponentLink2URL: http://www.ti.com/lit/ds/symlink/cd4040b-mil.pdf; ComponentLink3Description: Package Specification; ComponentLink3URL: http://www.ti.com/lit/ml/mcer002d/mcer002d.pdf
footprint J0016A (DIP, 16-Leads, Body 21.35x7.2mm, Pitch 2.54mm)
pins: 1 Q12 (out), 2 Q6 (out), 3 Q5 (out), 4 Q7 (out), 5 Q4 (out), 6 Q3 (out), 7 Q2 (out), 8 VSS (power), 9 Q1 (out), 10 Φ (in), 11 R (in), 12 Q9 (out), 13 Q8 (out), 14 Q10 (out), 15 Q11 (out), 16 VDD (power)

## CD4040BF3A
designator U?
CMOS 12-Stage Ripple-Carry Binary Counter/Divider, J0016A, TUBE; Generic Part Number: CD4040B-MIL; Manufacturer: Texas Instruments; PartNumber: CD4040BF3A; VCC(Max)(V): 18; VCC(Min)(V): 3; Inputs: 1; ICC @ Nom Voltage(Max)(mA): 0.03; Bits(#): 12; F @ Nom Voltage(Max)(Mhz): 8; Rating: Military; Technology Family: CD4000; Voltage(Nom)(V): 10; Schmitt Trigger: No; Output Drive (IOL/IOH)(Max)(mA): 1.5/-1.5; tpd @ Nom Voltage(Max)(ns): 160; DatasheetVersion: SCHS030D; PackageReference: J0016A; Output Type: CMOS; Function: Counter; Input Type: CMOS; Operating Temperature Range(C): -55 to 125; Type: Binary; ComponentLink1Description: Manufacturer URL; ComponentLink1URL: http://www.ti.com/; ComponentLink2Description: Datasheet; ComponentLink2URL: http://www.ti.com/lit/ds/symlink/cd4040b-mil.pdf; ComponentLink3Description: Package Specification; ComponentLink3URL: http://www.ti.com/lit/ml/mcer002d/mcer002d.pdf
footprint J0016A (DIP, 16-Leads, Body 21.35x7.2mm, Pitch 2.54mm)
pins: 1 Q12 (out), 2 Q6 (out), 3 Q5 (out), 4 Q7 (out), 5 Q4 (out), 6 Q3 (out), 7 Q2 (out), 8 VSS (power), 9 Q1 (out), 10 Φ (in), 11 R (in), 12 Q9 (out), 13 Q8 (out), 14 Q10 (out), 15 Q11 (out), 16 VDD (power)

## CD4040BM
designator U?
CMOS 12-Stage Ripple-Carry Binary Counter/Divider, D0016A, TUBE; Generic Part Number: CD4040B; Manufacturer: Texas Instruments; PartNumber: CD4040BM; VCC(Max)(V): 18; VCC(Min)(V): 3; Inputs: 1; ICC @ Nom Voltage(Max)(mA): 0.03; Bits(#): 12; F @ Nom Voltage(Max)(Mhz): 8; Rating: Catalog; Technology Family: CD4000; Voltage(Nom)(V): 5,10,15; Schmitt Trigger: No; Output Drive (IOL/IOH)(Max)(mA): 1.5/-1.5; tpd @ Nom Voltage(Max)(ns): 160; DatasheetVersion: SCHS030D; PackageReference: D0016A; Supplier 1: Mouser; Supplier Part Number 1: 595-CD4040BM; Supplier 2: Digi-Key; Supplier Part Number 2: 296-32882-5-ND; Output Type: CMOS; Function: Counter; Input Type: CMOS; Operating Temperature Range(C): -55 to 125; Type: Binary; Code_JEDEC: MS-012 variation AC; ComponentLink1Description: Manufacturer URL; ComponentLink1URL: http://www.ti.com/; ComponentLink2Description: Datasheet; ComponentLink2URL: http://www.ti.com/lit/ds/symlink/cd4040b.pdf; ComponentLink3Description: Package Specification; ComponentLink3URL: http://www.ti.com/lit/ml/mpds178g/mpds178g.pdf
footprint D0016A_N (SOIC, 16-Leads, Body 10x4mm, Pitch 1.27mm, IPC Medium Density)
footprint D0016A_M (SOIC, 16-Leads, Body 10x4mm, Pitch 1.27mm, IPC Low Density)
footprint D0016A_L (SOIC, 16-Leads, Body 10x4mm, Pitch 1.27mm, IPC High Density)
pins: 1 Q12 (out), 2 Q6 (out), 3 Q5 (out), 4 Q7 (out), 5 Q4 (out), 6 Q3 (out), 7 Q2 (out), 8 VSS (power), 9 Q1 (out), 10 Φ (in), 11 R (in), 12 Q9 (out), 13 Q8 (out), 14 Q10 (out), 15 Q11 (out), 16 VDD (power)

## CD4040BM96
designator U?
CMOS 12-Stage Ripple-Carry Binary Counter/Divider, D0016A, LARGE T&R; Generic Part Number: CD4040B; Manufacturer: Texas Instruments; PartNumber: CD4040BM96; VCC(Max)(V): 18; VCC(Min)(V): 3; Inputs: 1; ICC @ Nom Voltage(Max)(mA): 0.03; Bits(#): 12; F @ Nom Voltage(Max)(Mhz): 8; Rating: Catalog; Technology Family: CD4000; Voltage(Nom)(V): 5,10,15; Schmitt Trigger: No; Output Drive (IOL/IOH)(Max)(mA): 1.5/-1.5; tpd @ Nom Voltage(Max)(ns): 160; DatasheetVersion: SCHS030D; PackageReference: D0016A; Supplier 1: Mouser; Supplier Part Number 1: 595-CD4040BM96; Supplier 2: Digi-Key; Supplier Part Number 2: 296-25944-2-ND; Supplier 3: Digi-Key; Supplier Part Number 3: 296-25944-1-ND; Supplier 4: Digi-Key; Supplier Part Number 4: 296-25944-6-ND; Output Type: CMOS; Function: Counter; Input Type: CMOS; Operating Temperature Range(C): -55 to 125; Type: Binary; Code_JEDEC: MS-012 variation AC; ComponentLink1Description: Manufacturer URL; ComponentLink1URL: http://www.ti.com/; ComponentLink2Description: Datasheet; ComponentLink2URL: http://www.ti.com/lit/ds/symlink/cd4040b.pdf; ComponentLink3Description: Package Specification; ComponentLink3URL: http://www.ti.com/lit/ml/mpds178g/mpds178g.pdf
footprint D0016A_N (SOIC, 16-Leads, Body 10x4mm, Pitch 1.27mm, IPC Medium Density)
footprint D0016A_M (SOIC, 16-Leads, Body 10x4mm, Pitch 1.27mm, IPC Low Density)
footprint D0016A_L (SOIC, 16-Leads, Body 10x4mm, Pitch 1.27mm, IPC High Density)
pins: 1 Q12 (out), 2 Q6 (out), 3 Q5 (out), 4 Q7 (out), 5 Q4 (out), 6 Q3 (out), 7 Q2 (out), 8 VSS (power), 9 Q1 (out), 10 Φ (in), 11 R (in), 12 Q9 (out), 13 Q8 (out), 14 Q10 (out), 15 Q11 (out), 16 VDD (power)

## CD4040BNSR
designator U?
CMOS 12-Stage Ripple-Carry Binary Counter/Divider, NS0016A, LARGE T&R; Generic Part Number: CD4040B; Manufacturer: Texas Instruments; PartNumber: CD4040BNSR; VCC(Max)(V): 18; VCC(Min)(V): 3; Inputs: 1; ICC @ Nom Voltage(Max)(mA): 0.03; Bits(#): 12; F @ Nom Voltage(Max)(Mhz): 8; Rating: Catalog; Technology Family: CD4000; Voltage(Nom)(V): 5,10,15; Schmitt Trigger: No; Output Drive (IOL/IOH)(Max)(mA): 1.5/-1.5; tpd @ Nom Voltage(Max)(ns): 160; DatasheetVersion: SCHS030D; PackageReference: NS0016A; Supplier 1: Mouser; Supplier Part Number 1: 595-CD4040BNSR; Supplier 2: Digi-Key; Supplier Part Number 2: 296-13770-2-ND; Supplier 3: Digi-Key; Supplier Part Number 3: 296-13770-1-ND; Supplier 4: Digi-Key; Supplier Part Number 4: 296-13770-6-ND; Output Type: CMOS; Function: Counter; Input Type: CMOS; Operating Temperature Range(C): -55 to 125; Type: Binary; ComponentLink1Description: Manufacturer URL; ComponentLink1URL: http://www.ti.com/; ComponentLink2Description: Datasheet; ComponentLink2URL: http://www.ti.com/lit/ds/symlink/cd4040b.pdf; ComponentLink3Description: Package Specification; ComponentLink3URL: http://www.ti.com/lit/ml/msop002a/msop002a.pdf
footprint NS0016A_N (SOIC,16-Leads,Body 10.5x5.6mm,Pitch 1.27mm,IPC Medium Density)
footprint NS0016A_M (SOIC,16-Leads,Body 10.5x5.6mm,Pitch 1.27mm,IPC Low Density)
footprint NS0016A_L (SOIC,16-Leads,Body 10.5x5.6mm,Pitch 1.27mm,IPC High Density)
pins: 1 Q12 (out), 2 Q6 (out), 3 Q5 (out), 4 Q7 (out), 5 Q4 (out), 6 Q3 (out), 7 Q2 (out), 8 VSS (power), 9 Q1 (out), 10 Φ (in), 11 R (in), 12 Q9 (out), 13 Q8 (out), 14 Q10 (out), 15 Q11 (out), 16 VDD (power)

## CD4040BPW
designator U?
CMOS 12-Stage Ripple-Carry Binary Counter/Divider, PW0016A, TUBE; Generic Part Number: CD4040B; Manufacturer: Texas Instruments; PartNumber: CD4040BPW; VCC(Max)(V): 18; VCC(Min)(V): 3; Inputs: 1; ICC @ Nom Voltage(Max)(mA): 0.03; Bits(#): 12; F @ Nom Voltage(Max)(Mhz): 8; Rating: Catalog; Technology Family: CD4000; Voltage(Nom)(V): 5,10,15; Schmitt Trigger: No; Output Drive (IOL/IOH)(Max)(mA): 1.5/-1.5; tpd @ Nom Voltage(Max)(ns): 160; DatasheetVersion: SCHS030D; PackageReference: PW0016A; Supplier 1: Mouser; Supplier Part Number 1: 595-CD4040BPW; Supplier 2: Digi-Key; Supplier Part Number 2: 296-41542-5-ND; Output Type: CMOS; Function: Counter; Input Type: CMOS; Operating Temperature Range(C): -55 to 125; Type: Binary; Code_JEDEC: MO-153; ComponentLink1Description: Manufacturer URL; ComponentLink1URL: http://www.ti.com/; ComponentLink2Description: Datasheet; ComponentLink2URL: http://www.ti.com/lit/ds/symlink/cd4040b.pdf; ComponentLink3Description: Package Specification; ComponentLink3URL: http://www.ti.com/lit/ml/mpds361/mpds361.pdf
footprint PW0016A_N (SOP, 16-Leads, Body 5.1x4.5mm, Pitch 0.65mm, IPC Medium Density)
footprint PW0016A_M (SOP, 16-Leads, Body 5.1x4.5mm, Pitch 0.65mm, IPC Low Density)
footprint PW0016A_L (SOP, 16-Leads, Body 5.1x4.5mm, Pitch 0.65mm, IPC High Density)
pins: 1 Q12 (out), 2 Q6 (out), 3 Q5 (out), 4 Q7 (out), 5 Q4 (out), 6 Q3 (out), 7 Q2 (out), 8 VSS (power), 9 Q1 (out), 10 Φ (in), 11 R (in), 12 Q9 (out), 13 Q8 (out), 14 Q10 (out), 15 Q11 (out), 16 VDD (power)

## CD4040BPWR
designator U?
CMOS 12-Stage Ripple-Carry Binary Counter/Divider, PW0016A, LARGE T&R; Generic Part Number: CD4040B; Manufacturer: Texas Instruments; PartNumber: CD4040BPWR; VCC(Max)(V): 18; VCC(Min)(V): 3; Inputs: 1; ICC @ Nom Voltage(Max)(mA): 0.03; Bits(#): 12; F @ Nom Voltage(Max)(Mhz): 8; Rating: Catalog; Technology Family: CD4000; Voltage(Nom)(V): 5,10,15; Schmitt Trigger: No; Output Drive (IOL/IOH)(Max)(mA): 1.5/-1.5; tpd @ Nom Voltage(Max)(ns): 160; DatasheetVersion: SCHS030D; PackageReference: PW0016A; Supplier 1: Mouser; Supplier Part Number 1: 595-CD4040BPWR; Supplier 2: Digi-Key; Supplier Part Number 2: 296-12761-2-ND; Supplier 3: Digi-Key; Supplier Part Number 3: 296-12761-1-ND; Supplier 4: Digi-Key; Supplier Part Number 4: 296-12761-6-ND; Output Type: CMOS; Function: Counter; Input Type: CMOS; Operating Temperature Range(C): -55 to 125; Type: Binary; Code_JEDEC: MO-153; ComponentLink1Description: Manufacturer URL; ComponentLink1URL: http://www.ti.com/; ComponentLink2Description: Datasheet; ComponentLink2URL: http://www.ti.com/lit/ds/symlink/cd4040b.pdf; ComponentLink3Description: Package Specification; ComponentLink3URL: http://www.ti.com/lit/ml/mpds361/mpds361.pdf
footprint PW0016A_N (SOP, 16-Leads, Body 5.1x4.5mm, Pitch 0.65mm, IPC Medium Density)
footprint PW0016A_M (SOP, 16-Leads, Body 5.1x4.5mm, Pitch 0.65mm, IPC Low Density)
footprint PW0016A_L (SOP, 16-Leads, Body 5.1x4.5mm, Pitch 0.65mm, IPC High Density)
pins: 1 Q12 (out), 2 Q6 (out), 3 Q5 (out), 4 Q7 (out), 5 Q4 (out), 6 Q3 (out), 7 Q2 (out), 8 VSS (power), 9 Q1 (out), 10 Φ (in), 11 R (in), 12 Q9 (out), 13 Q8 (out), 14 Q10 (out), 15 Q11 (out), 16 VDD (power)

## CD4045BE
designator U?
CMOS 21-Stage Counter, N0016A, TUBE; Generic Part Number: CD4045B; Manufacturer: Texas Instruments; PartNumber: CD4045BE; VCC(Max)(V): 18; VCC(Min)(V): 3; Inputs: 1; ICC @ Nom Voltage(Max)(mA): 0.03; Bits(#): 2; F @ Nom Voltage(Max)(Mhz): 8; Rating: Catalog; Technology Family: CD4000; Voltage(Nom)(V): 5,10,15; Schmitt Trigger: No; Output Drive (IOL/IOH)(Max)(mA): 10.5/-10.5; tpd @ Nom Voltage(Max)(ns): 2700; DatasheetVersion: SCHS042C; PackageReference: N0016A; Supplier 1: Mouser; Supplier Part Number 1: 595-CD4045BE; Supplier 2: Digi-Key; Supplier Part Number 2: 296-3512-5-ND; Output Type: CMOS; Function: Counter; Input Type: CMOS; Operating Temperature Range(C): -55 to 125; Type: Other; Code_JEDEC: MS-001; ComponentLink1Description: Manufacturer URL; ComponentLink1URL: http://www.ti.com/; ComponentLink2Description: Datasheet; ComponentLink2URL: http://www.ti.com/lit/ds/symlink/cd4045b.pdf; ComponentLink3Description: Package Specification; ComponentLink3URL: http://www.ti.com/lit/ml/mpdi002c/mpdi002c.pdf
footprint N0016A (DIP, 16-Leads, Body 19.7x6.6mm, Pitch 2.54mm)
part A pins: 1 SP (in), 2 SN (in), 3 VDD (power), 7 Y (out), 8 Y+D (out), 14 VSS (power), 15 ~{Φ}O, 16 ΦI
part B pins: 4 NC, 5 NC, 6 NC, 9 NC, 10 NC, 11 NC, 12 NC, 13 NC

## CD4046BE
designator U?
CMOS Micropower Phase-Locked Loop, N0016A, TUBE; Generic Part Number: CD4046B; Manufacturer: Texas Instruments; PartNumber: CD4046BE; VCC(Max)(V): 18; VCC(Min)(V): 3; ICC @ Nom Voltage(Max)(mA): 1; F @ Nom Voltage(Max)(Mhz): 8; Rating: Catalog; Technology Family: CD4000; Voltage(Nom)(V): 5,10,15; Schmitt Trigger: No; Output Drive (IOL/IOH)(Max)(mA): 4/-4; tpd @ Nom Voltage(Max)(ns): 300; DatasheetVersion: SCHS043B; PackageReference: N0016A; Supplier 1: Mouser; Supplier Part Number 1: 595-CD4046BE; Supplier 2: Digi-Key; Supplier Part Number 2: 296-2052-5-ND; Output Type: CMOS; Input Type: CMOS; Bits(#): 1; Operating Temperature Range(C): -55 to 125; ComponentLink1Description: Manufacturer URL; ComponentLink1URL: http://www.ti.com/; ComponentLink2Description: Datasheet; ComponentLink2URL: http://www.ti.com/lit/ds/symlink/cd4046b.pdf
footprint N0016A (DIP, 16-Leads, Body 19.7x6.6mm, Pitch 2.54mm)
pins: 1 PHASE PULSES (out), 2 PHASE COMP I OUT (out), 3 COMPIN (in), 4 VCOOUT (out), 5 INHIBIT (in), 6 C1(1), 7 C1(2), 8 VSS (power), 9 VCOIN (in), 10 DEMOUT (out), 11 R1 TO VSS, 12 R2 TO VSS, 13 PHASE COMP II OUT (out), 14 SIGIN (in), 15 ZENER, 16 VDD (power)

## CD4046BF
designator U?
CMOS Micropower Phase-Locked Loop, J0016A, TUBE; Generic Part Number: CD4046B-MIL; Manufacturer: Texas Instruments; PartNumber: CD4046BF; VCC(Max)(V): 18; VCC(Min)(V): 3; ICC @ Nom Voltage(Max)(mA): 1; F @ Nom Voltage(Max)(Mhz): 8; Rating: Military; Technology Family: CD4000; Output Drive (IOL/IOH)(Max)(mA): 4/-4; tpd @ Nom Voltage(Max)(ns): 300; DatasheetVersion: SCHS043B; PackageReference: J0016A; Output Type: CMOS; Input Type: CMOS; Operating Temperature Range(C): -55 to 125; ComponentLink1Description: Manufacturer URL; ComponentLink1URL: http://www.ti.com/; ComponentLink2Description: Datasheet; ComponentLink2URL: http://www.ti.com/lit/ds/symlink/cd4046b-mil.pdf
footprint J0016A (DIP, 16-Leads, Body 21.35x7.2mm, Pitch 2.54mm)
pins: 1 PHASE PULSES (out), 2 PHASE COMP I OUT (out), 3 COMPIN (in), 4 VCOOUT (out), 5 INHIBIT (in), 6 C1(1), 7 C1(2), 8 VSS (power), 9 VCOIN (in), 10 DEMOUT (out), 11 R1 TO VSS, 12 R2 TO VSS, 13 PHASE COMP II OUT (out), 14 SIGIN (in), 15 ZENER, 16 VDD (power)

## CD4046BF3A
designator U?
CMOS Micropower Phase-Locked Loop, J0016A, TUBE; Generic Part Number: CD4046B-MIL; Manufacturer: Texas Instruments; PartNumber: CD4046BF3A; VCC(Max)(V): 18; VCC(Min)(V): 3; ICC @ Nom Voltage(Max)(mA): 1; F @ Nom Voltage(Max)(Mhz): 8; Rating: Military; Technology Family: CD4000; Output Drive (IOL/IOH)(Max)(mA): 4/-4; tpd @ Nom Voltage(Max)(ns): 300; DatasheetVersion: SCHS043B; PackageReference: J0016A; Output Type: CMOS; Input Type: CMOS; Operating Temperature Range(C): -55 to 125; ComponentLink1Description: Manufacturer URL; ComponentLink1URL: http://www.ti.com/; ComponentLink2Description: Datasheet; ComponentLink2URL: http://www.ti.com/lit/ds/symlink/cd4046b-mil.pdf
footprint J0016A (DIP, 16-Leads, Body 21.35x7.2mm, Pitch 2.54mm)
pins: 1 PHASE PULSES (out), 2 PHASE COMP I OUT (out), 3 COMPIN (in), 4 VCOOUT (out), 5 INHIBIT (in), 6 C1(1), 7 C1(2), 8 VSS (power), 9 VCOIN (in), 10 DEMOUT (out), 11 R1 TO VSS, 12 R2 TO VSS, 13 PHASE COMP II OUT (out), 14 SIGIN (in), 15 ZENER, 16 VDD (power)

## CD4046BNSR
designator U?
CMOS Micropower Phase-Locked Loop, NS0016A, LARGE T&R; Generic Part Number: CD4046B; Manufacturer: Texas Instruments; PartNumber: CD4046BNSR; VCC(Max)(V): 18; VCC(Min)(V): 3; ICC @ Nom Voltage(Max)(mA): 1; F @ Nom Voltage(Max)(Mhz): 8; Rating: Catalog; Technology Family: CD4000; Voltage(Nom)(V): 5,10,15; Schmitt Trigger: No; Output Drive (IOL/IOH)(Max)(mA): 4/-4; tpd @ Nom Voltage(Max)(ns): 300; DatasheetVersion: SCHS043B; PackageReference: NS0016A; Supplier 1: Mouser; Supplier Part Number 1: 595-CD4046BNSR; Supplier 2: Digi-Key; Supplier Part Number 2: 296-14108-2-ND; Supplier 3: Digi-Key; Supplier Part Number 3: 296-14108-1-ND; Supplier 4: Digi-Key; Supplier Part Number 4: 296-14108-6-ND; Output Type: CMOS; Input Type: CMOS; Bits(#): 1; Operating Temperature Range(C): -55 to 125; ComponentLink1Description: Manufacturer URL; ComponentLink1URL: http://www.ti.com/; ComponentLink2Description: Datasheet; ComponentLink2URL: http://www.ti.com/lit/ds/symlink/cd4046b.pdf
footprint NS0016A_N (SOIC,16-Leads,Body 10.5x5.6mm,Pitch 1.27mm,IPC Medium Density)
footprint NS0016A_M (SOIC,16-Leads,Body 10.5x5.6mm,Pitch 1.27mm,IPC Low Density)
footprint NS0016A_L (SOIC,16-Leads,Body 10.5x5.6mm,Pitch 1.27mm,IPC High Density)
pins: 1 PHASE PULSES (out), 2 PHASE COMP I OUT (out), 3 COMPIN (in), 4 VCOOUT (out), 5 INHIBIT (in), 6 C1(1), 7 C1(2), 8 VSS (power), 9 VCOIN (in), 10 DEMOUT (out), 11 R1 TO VSS, 12 R2 TO VSS, 13 PHASE COMP II OUT (out), 14 SIGIN (in), 15 ZENER, 16 VDD (power)

## CD4046BPW
designator U?
CMOS Micropower Phase-Locked Loop, PW0016A, TUBE; Generic Part Number: CD4046B; Manufacturer: Texas Instruments; PartNumber: CD4046BPW; VCC(Max)(V): 18; VCC(Min)(V): 3; ICC @ Nom Voltage(Max)(mA): 1; F @ Nom Voltage(Max)(Mhz): 8; Rating: Catalog; Technology Family: CD4000; Voltage(Nom)(V): 5,10,15; Schmitt Trigger: No; Output Drive (IOL/IOH)(Max)(mA): 4/-4; tpd @ Nom Voltage(Max)(ns): 300; DatasheetVersion: SCHS043B; PackageReference: PW0016A; Supplier 1: Mouser; Supplier Part Number 1: 595-CD4046BPW; Supplier 2: Digi-Key; Supplier Part Number 2: 296-32888-5-ND; Output Type: CMOS; Input Type: CMOS; Bits(#): 1; Operating Temperature Range(C): -55 to 125; ComponentLink1Description: Manufacturer URL; ComponentLink1URL: http://www.ti.com/; ComponentLink2Description: Datasheet; ComponentLink2URL: http://www.ti.com/lit/ds/symlink/cd4046b.pdf
footprint PW0016A_N (SOP, 16-Leads, Body 5.1x4.5mm, Pitch 0.65mm, IPC Medium Density)
footprint PW0016A_M (SOP, 16-Leads, Body 5.1x4.5mm, Pitch 0.65mm, IPC Low Density)
footprint PW0016A_L (SOP, 16-Leads, Body 5.1x4.5mm, Pitch 0.65mm, IPC High Density)
pins: 1 PHASE PULSES (out), 2 PHASE COMP I OUT (out), 3 COMPIN (in), 4 VCOOUT (out), 5 INHIBIT (in), 6 C1(1), 7 C1(2), 8 VSS (power), 9 VCOIN (in), 10 DEMOUT (out), 11 R1 TO VSS, 12 R2 TO VSS, 13 PHASE COMP II OUT (out), 14 SIGIN (in), 15 ZENER, 16 VDD (power)

## CD4046BPWR
designator U?
CMOS Micropower Phase-Locked Loop, PW0016A, LARGE T&R; Generic Part Number: CD4046B; Manufacturer: Texas Instruments; PartNumber: CD4046BPWR; VCC(Max)(V): 18; VCC(Min)(V): 3; ICC @ Nom Voltage(Max)(mA): 1; F @ Nom Voltage(Max)(Mhz): 8; Rating: Catalog; Technology Family: CD4000; Voltage(Nom)(V): 5,10,15; Schmitt Trigger: No; Output Drive (IOL/IOH)(Max)(mA): 4/-4; tpd @ Nom Voltage(Max)(ns): 300; DatasheetVersion: SCHS043B; PackageReference: PW0016A; Supplier 1: Mouser; Supplier Part Number 1: 595-CD4046BPWR; Supplier 2: Digi-Key; Supplier Part Number 2: 296-14109-2-ND; Supplier 3: Digi-Key; Supplier Part Number 3: 296-14109-1-ND; Supplier 4: Digi-Key; Supplier Part Number 4: 296-14109-6-ND; Output Type: CMOS; Input Type: CMOS; Bits(#): 1; Operating Temperature Range(C): -55 to 125; ComponentLink1Description: Manufacturer URL; ComponentLink1URL: http://www.ti.com/; ComponentLink2Description: Datasheet; ComponentLink2URL: http://www.ti.com/lit/ds/symlink/cd4046b.pdf
footprint PW0016A_N (SOP, 16-Leads, Body 5.1x4.5mm, Pitch 0.65mm, IPC Medium Density)
footprint PW0016A_M (SOP, 16-Leads, Body 5.1x4.5mm, Pitch 0.65mm, IPC Low Density)
footprint PW0016A_L (SOP, 16-Leads, Body 5.1x4.5mm, Pitch 0.65mm, IPC High Density)
pins: 1 PHASE PULSES (out), 2 PHASE COMP I OUT (out), 3 COMPIN (in), 4 VCOOUT (out), 5 INHIBIT (in), 6 C1(1), 7 C1(2), 8 VSS (power), 9 VCOIN (in), 10 DEMOUT (out), 11 R1 TO VSS, 12 R2 TO VSS, 13 PHASE COMP II OUT (out), 14 SIGIN (in), 15 ZENER, 16 VDD (power)

## CD4047BD3
designator U?
CMOS Low-Power Monostable/Astable Multivibrator, JD0014A, TUBE; Generic Part Number: CD4047B-MIL; Manufacturer: Texas Instruments; PartNumber: CD4047BD3; VCC(Max)(V): 18; VCC(Min)(V): 3; ICC @ Nom Voltage(Max)(mA): 0.06; Bits(#): 1; F @ Nom Voltage(Max)(Mhz): 8; Rating: Military; Technology Family: CD4000; Output Drive (IOL/IOH)(Max)(mA): 4/-4; tpd @ Nom Voltage(Max)(ns): 450; DatasheetVersion: SCHS044C; PackageReference: JD0014A; Output Type: CMOS; Input Type: CMOS; Operating Temperature Range(C): -55 to 125; ComponentLink1Description: Manufacturer URL; ComponentLink1URL: http://www.ti.com/; ComponentLink2Description: Datasheet; ComponentLink2URL: http://www.ti.com/lit/ds/symlink/cd4047b-mil.pdf; ComponentLink3Description: Package Specification; ComponentLink3URL: http://www.ti.com/lit/ml/mcdi043a/mcdi043a.pdf
footprint JD0014A (DIP, 14-Leads, Body 19.55x7.2mm, Pitch 2.54mm)
pins: 1 C, 2 R, 3 R-C COM, 4 ~{ASTABLE} (in), 5 ASTABLE (in), 6 -TRIGGER (in), 7 VSS (power), 8 +TRIGGER (in), 9 EXT RESET (in), 10 Q (out), 11 ~{Q} (out), 12 RETRIGGER (in), 13 OSC OUT (out), 14 VDD (power)

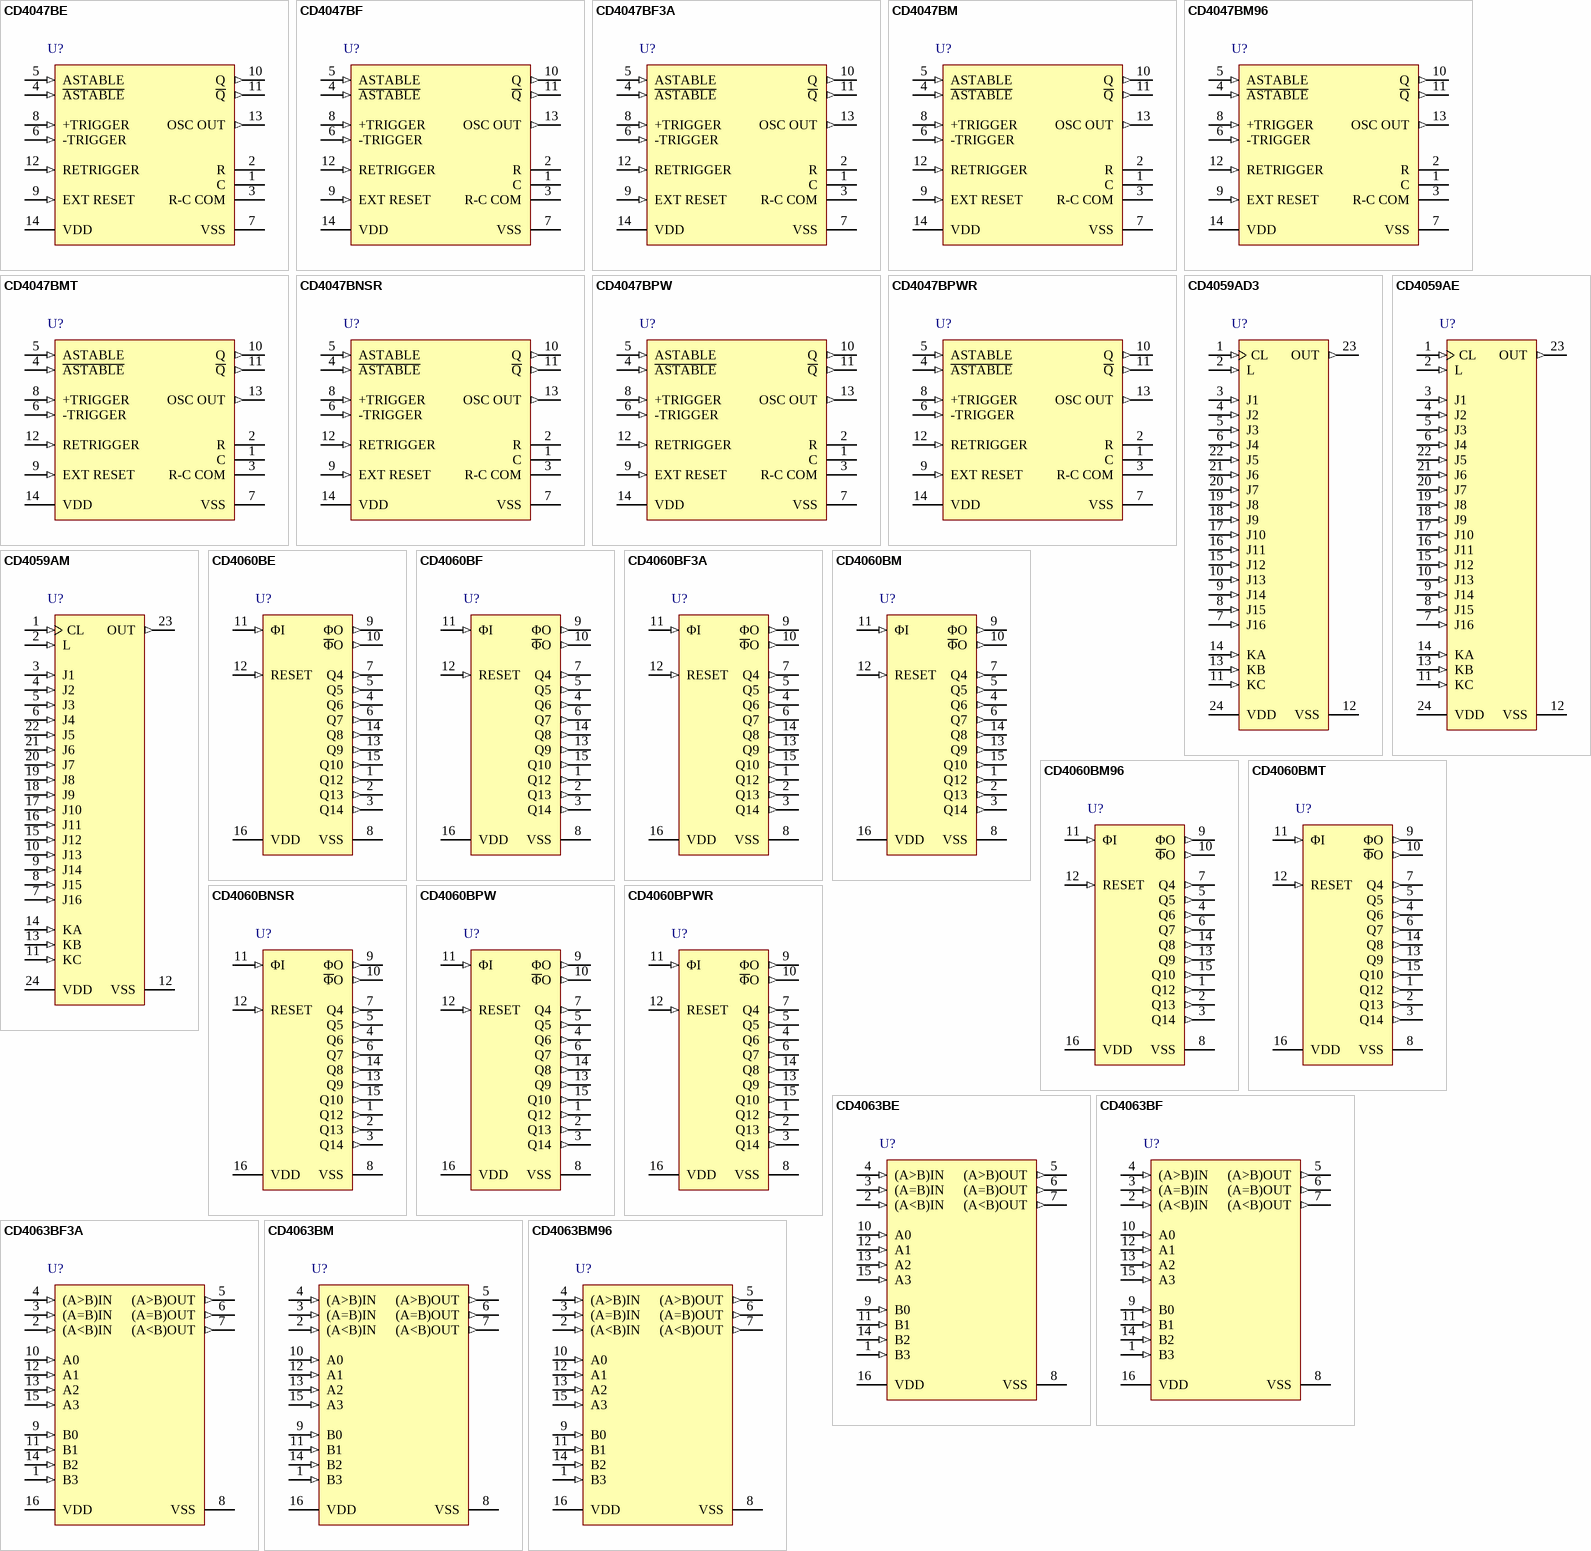
[diagram p26: symbols CD4047BE to CD4063BM96]

## CD4047BE
designator U?
CMOS Low-Power Monostable/Astable Multivibrator, N0014A, TUBE; Generic Part Number: CD4047B; Manufacturer: Texas Instruments; PartNumber: CD4047BE; VCC(Max)(V): 18; VCC(Min)(V): 3; ICC @ Nom Voltage(Max)(mA): 0.06; Bits(#): 1; F @ Nom Voltage(Max)(Mhz): 8; Rating: Military; Technology Family: CD4000; Voltage(Nom)(V): 10; Output Drive (IOL/IOH)(Max)(mA): 4/-4; tpd @ Nom Voltage(Max)(ns): 450; DatasheetVersion: SCHS044C; PackageReference: N0014A; Supplier 1: Mouser; Supplier Part Number 1: 595-CD4047BE; Supplier 2: Digi-Key; Supplier Part Number 2: 296-2053-5-ND; Output Type: CMOS; Input Type: CMOS; Operating Temperature Range(C): -55 to 125; Code_JEDEC: MS-001; ComponentLink1Description: Manufacturer URL; ComponentLink1URL: http://www.ti.com/; ComponentLink2Description: Datasheet; ComponentLink2URL: http://www.ti.com/lit/ds/symlink/cd4047b.pdf; ComponentLink3Description: Package Specification; ComponentLink3URL: http://www.ti.com/lit/ml/mpdi002c/mpdi002c.pdf
footprint N0014A (DIP, 14-Leads, Body 19.7x6.6mm, Pitch 2.54mm)
pins: 1 C, 2 R, 3 R-C COM, 4 ~{ASTABLE} (in), 5 ASTABLE (in), 6 -TRIGGER (in), 7 VSS (power), 8 +TRIGGER (in), 9 EXT RESET (in), 10 Q (out), 11 ~{Q} (out), 12 RETRIGGER (in), 13 OSC OUT (out), 14 VDD (power)

## CD4047BF
designator U?
CMOS Low-Power Monostable/Astable Multivibrator, J0014A, TUBE; Generic Part Number: CD4047B-MIL; Manufacturer: Texas Instruments; PartNumber: CD4047BF; VCC(Max)(V): 18; VCC(Min)(V): 3; ICC @ Nom Voltage(Max)(mA): 0.06; Bits(#): 1; F @ Nom Voltage(Max)(Mhz): 8; Rating: Military; Technology Family: CD4000; Output Drive (IOL/IOH)(Max)(mA): 4/-4; tpd @ Nom Voltage(Max)(ns): 450; DatasheetVersion: SCHS044C; PackageReference: J0014A; Output Type: CMOS; Input Type: CMOS; Operating Temperature Range(C): -55 to 125; ComponentLink1Description: Manufacturer URL; ComponentLink1URL: http://www.ti.com/; ComponentLink2Description: Datasheet; ComponentLink2URL: http://www.ti.com/lit/ds/symlink/cd4047b-mil.pdf; ComponentLink3Description: Package Specification; ComponentLink3URL: http://www.ti.com/lit/ml/mcer002d/mcer002d.pdf
footprint J0014A (DIP, 14-Leads, Body 19.95x7.2mm, Pitch 2.54mm)
pins: 1 C, 2 R, 3 R-C COM, 4 ~{ASTABLE} (in), 5 ASTABLE (in), 6 -TRIGGER (in), 7 VSS (power), 8 +TRIGGER (in), 9 EXT RESET (in), 10 Q (out), 11 ~{Q} (out), 12 RETRIGGER (in), 13 OSC OUT (out), 14 VDD (power)

## CD4047BF3A
designator U?
CMOS Low-Power Monostable/Astable Multivibrator, J0014A, TUBE; Generic Part Number: CD4047B-MIL; Manufacturer: Texas Instruments; PartNumber: CD4047BF3A; VCC(Max)(V): 18; VCC(Min)(V): 3; ICC @ Nom Voltage(Max)(mA): 0.06; Bits(#): 1; F @ Nom Voltage(Max)(Mhz): 8; Rating: Military; Technology Family: CD4000; Output Drive (IOL/IOH)(Max)(mA): 4/-4; tpd @ Nom Voltage(Max)(ns): 450; DatasheetVersion: SCHS044C; PackageReference: J0014A; Output Type: CMOS; Input Type: CMOS; Operating Temperature Range(C): -55 to 125; ComponentLink1Description: Manufacturer URL; ComponentLink1URL: http://www.ti.com/; ComponentLink2Description: Datasheet; ComponentLink2URL: http://www.ti.com/lit/ds/symlink/cd4047b-mil.pdf; ComponentLink3Description: Package Specification; ComponentLink3URL: http://www.ti.com/lit/ml/mcer002d/mcer002d.pdf
footprint J0014A (DIP, 14-Leads, Body 19.95x7.2mm, Pitch 2.54mm)
pins: 1 C, 2 R, 3 R-C COM, 4 ~{ASTABLE} (in), 5 ASTABLE (in), 6 -TRIGGER (in), 7 VSS (power), 8 +TRIGGER (in), 9 EXT RESET (in), 10 Q (out), 11 ~{Q} (out), 12 RETRIGGER (in), 13 OSC OUT (out), 14 VDD (power)

## CD4047BM
designator U?
CMOS Low-Power Monostable/Astable Multivibrator, D0014A, TUBE; Generic Part Number: CD4047B; Manufacturer: Texas Instruments; PartNumber: CD4047BM; VCC(Max)(V): 18; VCC(Min)(V): 3; ICC @ Nom Voltage(Max)(mA): 0.06; Bits(#): 1; F @ Nom Voltage(Max)(Mhz): 8; Rating: Military; Technology Family: CD4000; Voltage(Nom)(V): 10; Output Drive (IOL/IOH)(Max)(mA): 4/-4; tpd @ Nom Voltage(Max)(ns): 450; DatasheetVersion: SCHS044C; PackageReference: D0014A; Supplier 1: Mouser; Supplier Part Number 1: 595-CD4047BM; Supplier 2: Digi-Key; Supplier Part Number 2: 296-32889-5-ND; Output Type: CMOS; Input Type: CMOS; Operating Temperature Range(C): -55 to 125; Code_JEDEC: MS-012; ComponentLink1Description: Manufacturer URL; ComponentLink1URL: http://www.ti.com/; ComponentLink2Description: Datasheet; ComponentLink2URL: http://www.ti.com/lit/ds/symlink/cd4047b.pdf; ComponentLink3Description: Package Specification; ComponentLink3URL: http://www.ti.com/lit/ml/mpds177g/mpds177g.pdf
footprint D0014A_N (SOIC, 14-Leads, Body 8.75x4mm, Pitch 1.27mm, IPC Medium Density)
footprint D0014A_M (SOIC, 14-Leads, Body 8.75x4mm, Pitch 1.27mm, IPC Low Density)
footprint D0014A_L (SOIC, 14-Leads, Body 8.75x4mm, Pitch 1.27mm, IPC High Density)
pins: 1 C, 2 R, 3 R-C COM, 4 ~{ASTABLE} (in), 5 ASTABLE (in), 6 -TRIGGER (in), 7 VSS (power), 8 +TRIGGER (in), 9 EXT RESET (in), 10 Q (out), 11 ~{Q} (out), 12 RETRIGGER (in), 13 OSC OUT (out), 14 VDD (power)

## CD4047BM96
designator U?
CMOS Low-Power Monostable/Astable Multivibrator, D0014A, LARGE T&R; Generic Part Number: CD4047B; Manufacturer: Texas Instruments; PartNumber: CD4047BM96; VCC(Max)(V): 18; VCC(Min)(V): 3; ICC @ Nom Voltage(Max)(mA): 0.06; Bits(#): 1; F @ Nom Voltage(Max)(Mhz): 8; Rating: Military; Technology Family: CD4000; Voltage(Nom)(V): 10; Output Drive (IOL/IOH)(Max)(mA): 4/-4; tpd @ Nom Voltage(Max)(ns): 450; DatasheetVersion: SCHS044C; PackageReference: D0014A; Supplier 1: Mouser; Supplier Part Number 1: 595-CD4047BM96; Supplier 2: Digi-Key; Supplier Part Number 2: 296-31500-2-ND; Supplier 3: Digi-Key; Supplier Part Number 3: 296-31500-1-ND; Supplier 4: Digi-Key; Supplier Part Number 4: 296-31500-6-ND; Output Type: CMOS; Input Type: CMOS; Operating Temperature Range(C): -55 to 125; Code_JEDEC: MS-012; ComponentLink1Description: Manufacturer URL; ComponentLink1URL: http://www.ti.com/; ComponentLink2Description: Datasheet; ComponentLink2URL: http://www.ti.com/lit/ds/symlink/cd4047b.pdf; ComponentLink3Description: Package Specification; ComponentLink3URL: http://www.ti.com/lit/ml/mpds177g/mpds177g.pdf
footprint D0014A_N (SOIC, 14-Leads, Body 8.75x4mm, Pitch 1.27mm, IPC Medium Density)
footprint D0014A_M (SOIC, 14-Leads, Body 8.75x4mm, Pitch 1.27mm, IPC Low Density)
footprint D0014A_L (SOIC, 14-Leads, Body 8.75x4mm, Pitch 1.27mm, IPC High Density)
pins: 1 C, 2 R, 3 R-C COM, 4 ~{ASTABLE} (in), 5 ASTABLE (in), 6 -TRIGGER (in), 7 VSS (power), 8 +TRIGGER (in), 9 EXT RESET (in), 10 Q (out), 11 ~{Q} (out), 12 RETRIGGER (in), 13 OSC OUT (out), 14 VDD (power)